# EAGLE library part MCP1640T (library ds_ic_vreg)
he MCP1640/40B/40C/40D is a compact, high-efficiency, fixed frequency, synchronous step-up DC-DC converter.
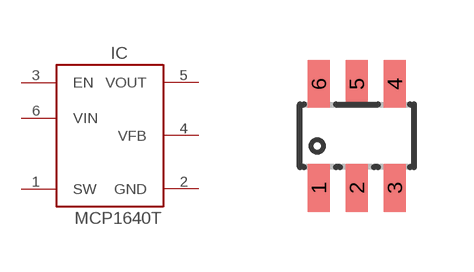
[diagram p14: symbol with the pads of SOT23-6; footprint SOT23-6]

Designator prefix IC

## MCP1640TIC  [SOT23-6]
1  SW
2  GND
3  EN
4  VFB
5  VOUT
6  VIN

## Footprint SOT23-6 (pad centres in mm)
smd 0.55 x 1.2: 1 -0.95,-1.3; 2 0,-1.3; 3 0.95,-1.3; 4 0.95,1.3; 5 0,1.3; 6 -0.95,1.3